# Altium schematic symbol library REG_LM7805.Schlib: 1 symbol
Pins are listed as number, name and electrical type; pins without a type are passive.

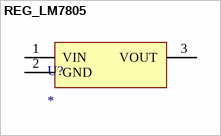
[diagram p0: symbol REG_LM7805]

## REG_LM7805
designator U?
pins: 1 VIN, 2 GND, 3 VOUT